# EAGLE library part 5747840-3 (library Custom_Hat_Library)
TE Connectivity Amplimite HD-20 Series, 9 Way Right Angle Through Hole PCB D-sub Connector Plug, 2.74mm Pitch, with Source: Datasheet <https://www.te.com/commerce/DocumentDelivery/DDEController?Action=srchrtrv&DocNm=5747840&DocType=Customer Drawing&DocLang=English>
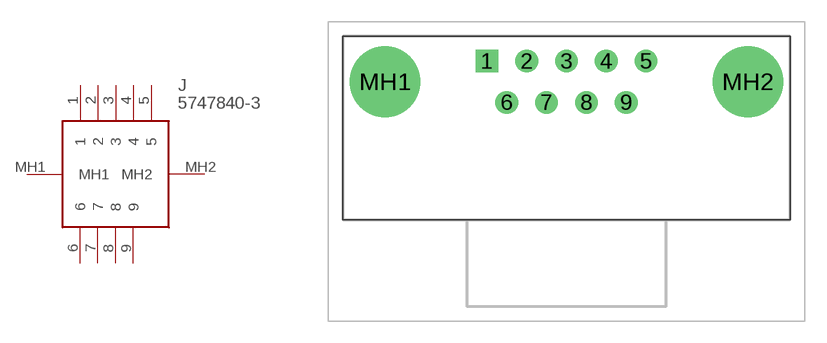
[diagram p0: symbol with the pads of 57478403; footprint 57478403]

Designator prefix J

## 5747840-3 (ARROW_PART_NUMBER: 5747840-3; ARROW_PRICE-STOCK: https://www.arrow.com/en/products/5747840-3/te-connectivity?region=nac; DESCRIPTION: TE Connectivity Amplimite HD-20 Series, 9 Way Right Angle Through Hole PCB D-sub Connector Plug, 2.74mm Pitch, with; HEIGHT: 12.93mm; MANUFACTURER_NAME: TE Connectivity; MANUFACTURER_PART_NUMBER: 5747840-3; MOUSER_PART_NUMBER: 571-5747840-3; MOUSER_PRICE-STOCK: https://www.mouser.co.uk/ProductDetail/TE-Connectivity/5747840-3?qs=x6EjVpvqMVNS%252B6EaV6pwhg%3D%3D)  [57478403]
1  1
2  2
3  3
4  4
5  5
6  6
7  7
8  8
9  9
MH1  MH1
MH2  MH2

## Footprint 57478403 (pad centres in mm)
5747840-3-3
drill 1.04 pad 1.56 square: 1 0,0
drill 1.04 pad 1.56: 2 2.74,0; 3 5.48,0; 4 8.22,0; 5 10.96,0; 6 1.37,-2.84; 7 4.11,-2.84; 8 6.85,-2.84; 9 9.59,-2.84
drill 3.25 pad 4.875: MH1 -7.015,-1.42; MH2 17.975,-1.42